# Altium integrated library Maxim Sensors.IntLib: 1172 symbols (part 12 of 61)
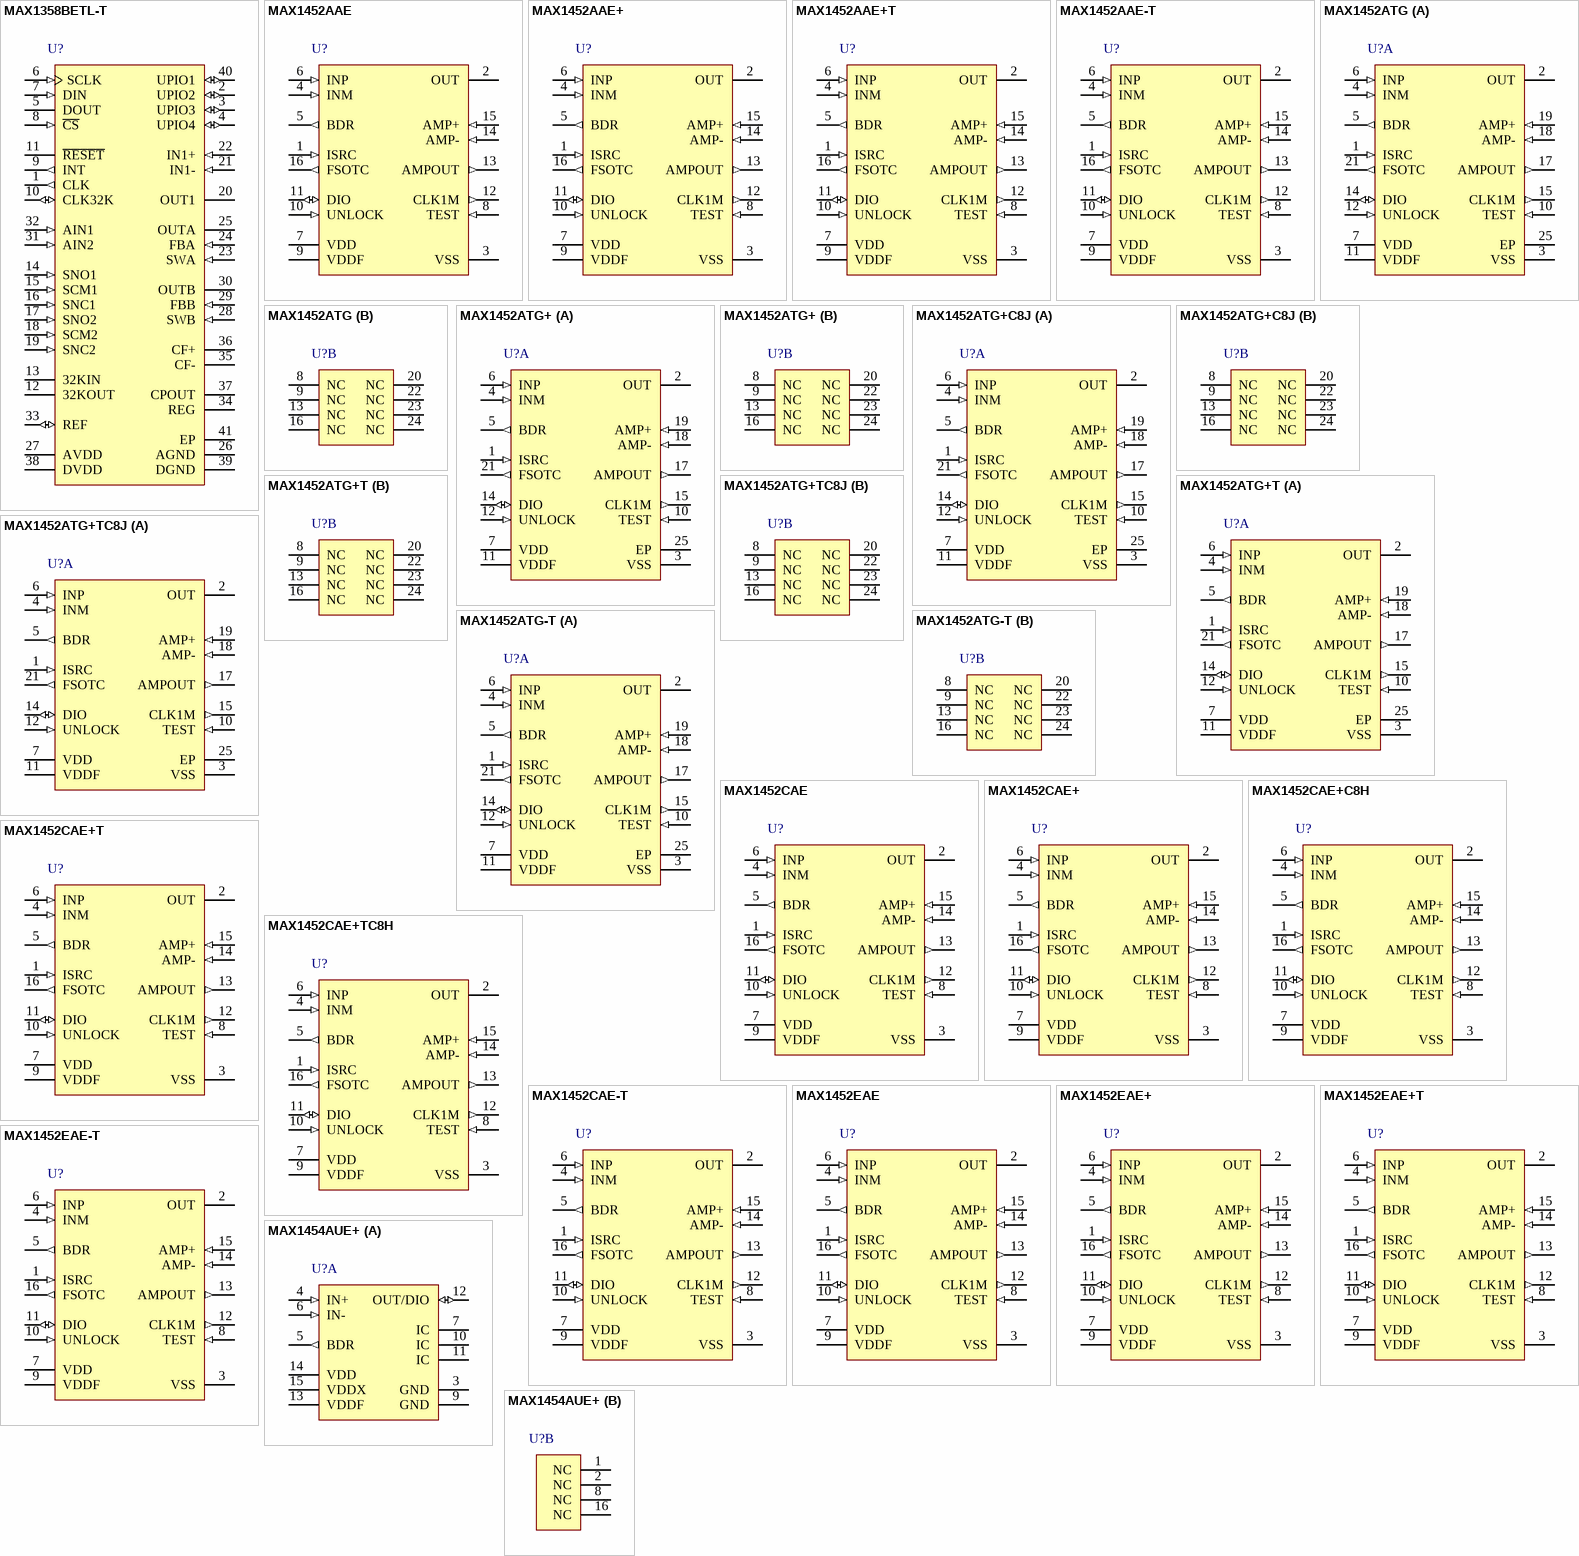
[diagram p44: symbols MAX1358BETL-T to MAX1454AUE+]

## MAX1452EAE+T
designator U?
Low Cost Precision Sensor Signal Conditioner with 16-bit DAC, -40 to 85 degC, 16-Pin SOP (A16+2), Pb-Free, Tape and Reel; Generic Part Number: MAX1452; PartNumber: MAX1452EAE+T; Calibration Method: Internal DACs updated from internal EEPROM; Industry Qualified: Automotive - AECQ100, Automotive - General; Output Type: Analog; DatasheetVersion: Rev. 2; PackageVersion: Rev. C, 02/2010; PackageReference: A16+2; PackageDescription: 16-Pin Shrink Small-Outline Package, Body 5.29 x 6.2 mm, Pitch 0.65 mm; Supplier 1: Digi-Key; Supplier Part Number 1: MAX1452EAE+T-ND; Supplier 2: Mouser; Supplier Part Number 2: 700-MAX1452EAET; DACs/ADCs: 16-bit DAC; Features: Aux. Op Amp, No External Trim Req'd ,Temp. Sensor; Packing: Tape and Reel; Mounting Technology: Surface Mount; ComponentLink1Description: Manufacturer URL; ComponentLink1URL: http://www.maximintegrated.com/; ComponentLink2Description: Datasheet; ComponentLink2URL: http://datasheets.maximintegrated.com/en/ds/MAX1452.pdf; ComponentLink3Description: Package Specification; ComponentLink3URL: http://pdfserv.maximintegrated.com/package_dwgs/21-0056.PDF
footprint MAXM-A16+2_N (SOP, 16-Leads, Body 6.2x5.29mm, Pitch 0.65mm, IPC Medium Density)
footprint MAXM-A16+2_L (SOP, 16-Leads, Body 6.2x5.29mm, Pitch 0.65mm, IPC High Density)
footprint MAXM-A16+2_M (SOP, 16-Leads, Body 6.2x5.29mm, Pitch 0.65mm, IPC Low Density)
pins: 1 ISRC (in) "Bridge Drive Current Mode Setting", 2 OUT (hiz) "High ESD and Scan Path Output Signal. May need a 0.1uF capacitor, in noisy environments. OUT may be parallel connected to DIO.", 3 VSS (power) "Negative Supply Voltage", 4 INM (in) "Bridge Negative Input. Can be swapped to INP by configuration register.", 5 BDR (out) "Bridge Drive", 6 INP (in) "Bridge Positive Input. Can be swapped to INM by configuration register.", 7 VDD (power) "Positive Supply Voltage. Connect a 0.1uF capacitor from VDD to VSS.", 8 TEST (in) "Internally Connected. Connect to VSS.", 9 VDDF (power) "Positive Supply Voltage for EEPROM. Connect a 1uF capacitor from VDDF to VSS. Connect VDDF to VDD or for improved noise performance connect a 30ohm resistor to VDD.", 10 UNLOCK (in) "Secure-Lock Disable. Allows communication to the device.", 11 DIO (io) "Digital Input Output. DIO allows communication with the device.", 12 CLK1M (out) "1MHz Clock Output. The output can be controlled by a configuration bit.", 13 AMPOUT (out) "Uncommitted Amplifier Output", 14 AMP- (in) "Uncommitted Amplifier Negative Input", 15 AMP+ (in) "Uncommitted Amplifier Positive Input", 16 FSOTC (out) "Full Span TC Buffered Output"

## MAX1452EAE-T
designator U?
Low Cost Precision Sensor Signal Conditioner with 16-bit DAC, -40 to 85 degC, 16-Pin SOP (A16-2), Tape and Reel; Generic Part Number: MAX1452; PartNumber: MAX1452EAE-T; Calibration Method: Internal DACs updated from internal EEPROM; Industry Qualified: Automotive - AECQ100, Automotive - General; Output Type: Analog; DatasheetVersion: Rev. 2; PackageVersion: Rev. C, 02/2010; PackageReference: A16-2; PackageDescription: 16-Pin Shrink Small-Outline Package, Body 5.29 x 6.2 mm, Pitch 0.65 mm; Supplier 1: Mouser; Supplier Part Number 1: N/A; DACs/ADCs: 16-bit DAC; Features: Aux. Op Amp, No External Trim Req'd ,Temp. Sensor; Packing: Tape and Reel; Mounting Technology: Surface Mount; ComponentLink1Description: Manufacturer URL; ComponentLink1URL: http://www.maximintegrated.com/; ComponentLink2Description: Datasheet; ComponentLink2URL: http://datasheets.maximintegrated.com/en/ds/MAX1452.pdf; ComponentLink3Description: Package Specification; ComponentLink3URL: http://pdfserv.maximintegrated.com/package_dwgs/21-0056.PDF
footprint MAXM-A16-2_N (SOP, 16-Leads, Body 6.2x5.29mm, Pitch 0.65mm, IPC Medium Density)
footprint MAXM-A16-2_L (SOP, 16-Leads, Body 6.2x5.29mm, Pitch 0.65mm, IPC High Density)
footprint MAXM-A16-2_M (SOP, 16-Leads, Body 6.2x5.29mm, Pitch 0.65mm, IPC Low Density)
pins: 1 ISRC (in) "Bridge Drive Current Mode Setting", 2 OUT (hiz) "High ESD and Scan Path Output Signal. May need a 0.1uF capacitor, in noisy environments. OUT may be parallel connected to DIO.", 3 VSS (power) "Negative Supply Voltage", 4 INM (in) "Bridge Negative Input. Can be swapped to INP by configuration register.", 5 BDR (out) "Bridge Drive", 6 INP (in) "Bridge Positive Input. Can be swapped to INM by configuration register.", 7 VDD (power) "Positive Supply Voltage. Connect a 0.1uF capacitor from VDD to VSS.", 8 TEST (in) "Internally Connected. Connect to VSS.", 9 VDDF (power) "Positive Supply Voltage for EEPROM. Connect a 1uF capacitor from VDDF to VSS. Connect VDDF to VDD or for improved noise performance connect a 30ohm resistor to VDD.", 10 UNLOCK (in) "Secure-Lock Disable. Allows communication to the device.", 11 DIO (io) "Digital Input Output. DIO allows communication with the device.", 12 CLK1M (out) "1MHz Clock Output. The output can be controlled by a configuration bit.", 13 AMPOUT (out) "Uncommitted Amplifier Output", 14 AMP- (in) "Uncommitted Amplifier Negative Input", 15 AMP+ (in) "Uncommitted Amplifier Positive Input", 16 FSOTC (out) "Full Span TC Buffered Output"

## MAX1454AUE+
designator U?
Precision Sensor Signal Conditioner with Overvoltage Protection with 16-bit ADC, -40 to 125 degC, 16-Pin SOP (U16M+1), Pb-Free; Generic Part Number: MAX1454; PartNumber: MAX1454AUE+; Calibration Method: Internal DACs updated from internal EEPROM; Industry Qualified: Automotive - General; Output Type: Analog; DatasheetVersion: Rev. 0; PackageVersion: Rev. L, 07/2010; PackageReference: U16M+1; PackageDescription: 16-Pin Thin Shrink Small-Outline Package, Body 4.4 x 5 mm, Pitch 0.65 mm; Supplier 1: Digi-Key; Supplier Part Number 1: MAX1454AUE+-ND; Supplier 2: Mouser; Supplier Part Number 2: 700-MAX1454AUE+; DACs/ADCs: 16-bit ADC; Features: No External Trim Req'd, Protected to &plusmn;45V ,Temp. Sensor; Mounting Technology: Surface Mount; Code_JEDEC: MO-153; ComponentLink1Description: Manufacturer URL; ComponentLink1URL: http://www.maximintegrated.com/; ComponentLink2Description: Datasheet; ComponentLink2URL: http://datasheets.maximintegrated.com/en/ds/MAX1454.pdf; ComponentLink3Description: Package Specification; ComponentLink3URL: http://pdfserv.maximintegrated.com/package_dwgs/21-0066.PDF
footprint MAXM-U16M+1_N (SOP, 16-Leads, Body 5x4.4mm, Pitch 0.65mm, IPC Medium Density)
footprint MAXM-U16M+1_L (SOP, 16-Leads, Body 5x4.4mm, Pitch 0.65mm, IPC High Density)
footprint MAXM-U16M+1_M (SOP, 16-Leads, Body 5x4.4mm, Pitch 0.65mm, IPC Low Density)
part A pins: 3 GND (power) "Ground", 4 IN+ (in) "Positive Bridge Input. IN+ can be swapped to IN- by Configuration Register 1.", 5 BDR (out) "Bridge Drive", 6 IN- (in) "Negative Bridge Input. IN- can be swapped to IN+ by Configuration Register 1.", 7 IC (power) "Internally Connected. Connect IC to GND.", 9 GND (power) "Ground", 10 IC (power) "Internally Connected. Connect IC to GND.", 11 IC (power) "Internally Connected. Connect IC to GND.", 12 OUT/DIO (io) "Analog Output and Digital I/O (Multiplexed)", 13 VDDF (power) "Flash Memory Supply Voltage. Connect VDDF to VDD.", 14 VDD (power) "Regulated Supply Voltage. Requires a 0.1uF capacitor from VDD to GND.", 15 VDDX (power) "External Supply Voltage. Bypass to GND with a 0.1uF capacitor."
part B pins: 1 NC "No Connection. Not internally connected.", 2 NC "No Connection. Not internally connected.", 8 NC "No Connection. Not internally connected.", 16 NC "No Connection. Not internally connected."

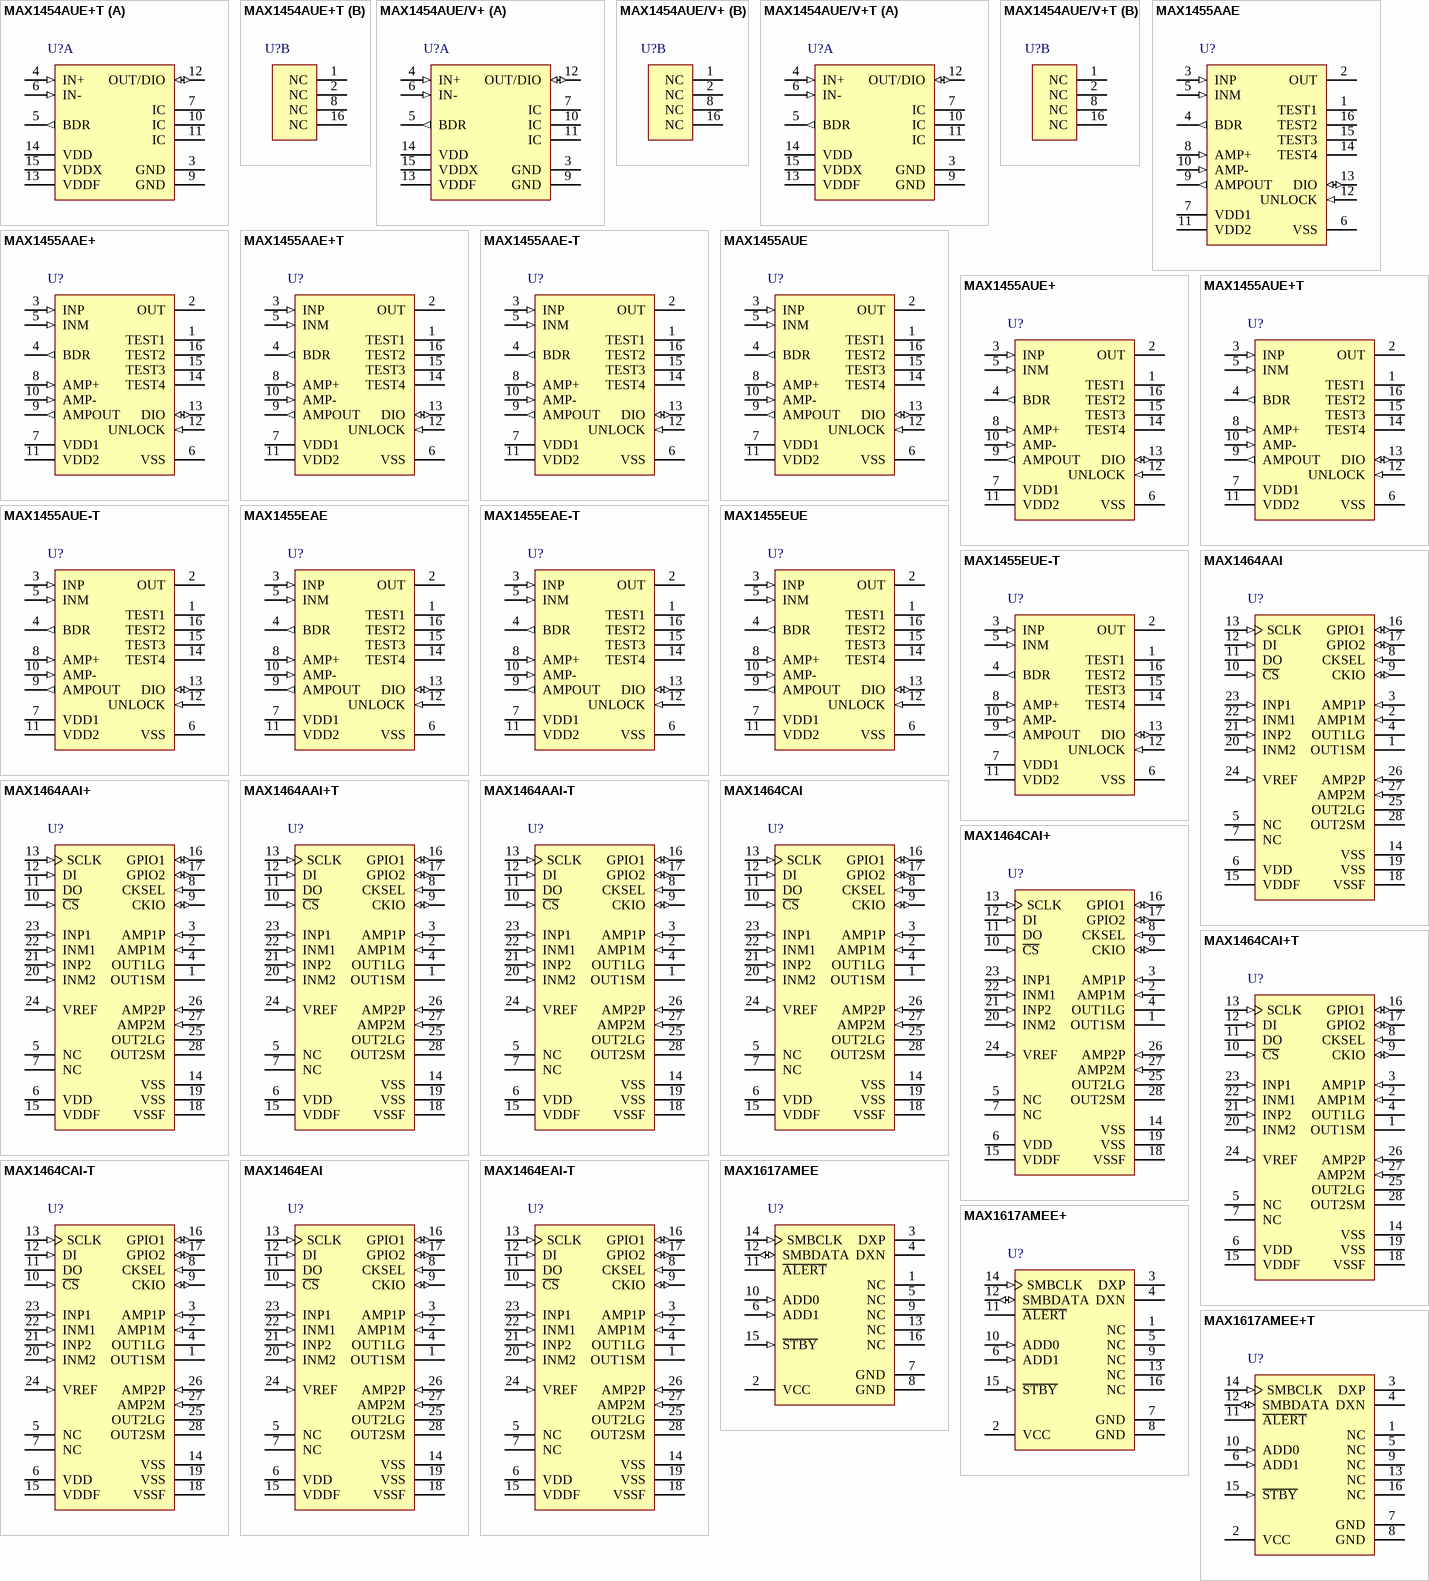
[diagram p7: symbols MAX1454AUE+T to MAX1617AMEE+T]

## MAX1454AUE+T
designator U?
Precision Sensor Signal Conditioner with Overvoltage Protection with 16-bit ADC, -40 to 125 degC, 16-Pin SOP (U16M+1), Pb-Free, Tape and Reel; Generic Part Number: MAX1454; PartNumber: MAX1454AUE+T; Calibration Method: Internal DACs updated from internal EEPROM; Industry Qualified: Automotive - General; Output Type: Analog; DatasheetVersion: Rev. 0; PackageVersion: Rev. L, 07/2010; PackageReference: U16M+1; PackageDescription: 16-Pin Thin Shrink Small-Outline Package, Body 4.4 x 5 mm, Pitch 0.65 mm; Supplier 1: Digi-Key; Supplier Part Number 1: MAX1454AUE+T-ND; Supplier 2: Mouser; Supplier Part Number 2: 700-MAX1454AUE+T; DACs/ADCs: 16-bit ADC; Features: No External Trim Req'd, Protected to &plusmn; 45V, Temp. Sensor; Packing: Tape and Reel; Mounting Technology: Surface Mount; Code_JEDEC: MO-153; ComponentLink1Description: Manufacturer URL; ComponentLink1URL: http://www.maximintegrated.com/; ComponentLink2Description: Datasheet; ComponentLink2URL: http://datasheets.maximintegrated.com/en/ds/MAX1454.pdf; ComponentLink3Description: Package Specification; ComponentLink3URL: http://pdfserv.maximintegrated.com/package_dwgs/21-0066.PDF
footprint MAXM-U16M+1_N (SOP, 16-Leads, Body 5x4.4mm, Pitch 0.65mm, IPC Medium Density)
footprint MAXM-U16M+1_L (SOP, 16-Leads, Body 5x4.4mm, Pitch 0.65mm, IPC High Density)
footprint MAXM-U16M+1_M (SOP, 16-Leads, Body 5x4.4mm, Pitch 0.65mm, IPC Low Density)
part A pins: 3 GND (power) "Ground", 4 IN+ (in) "Positive Bridge Input. IN+ can be swapped to IN- by Configuration Register 1.", 5 BDR (out) "Bridge Drive", 6 IN- (in) "Negative Bridge Input. IN- can be swapped to IN+ by Configuration Register 1.", 7 IC (power) "Internally Connected. Connect IC to GND.", 9 GND (power) "Ground", 10 IC (power) "Internally Connected. Connect IC to GND.", 11 IC (power) "Internally Connected. Connect IC to GND.", 12 OUT/DIO (io) "Analog Output and Digital I/O (Multiplexed)", 13 VDDF (power) "Flash Memory Supply Voltage. Connect VDDF to VDD.", 14 VDD (power) "Regulated Supply Voltage. Requires a 0.1uF capacitor from VDD to GND.", 15 VDDX (power) "External Supply Voltage. Bypass to GND with a 0.1uF capacitor."
part B pins: 1 NC "No Connection. Not internally connected.", 2 NC "No Connection. Not internally connected.", 8 NC "No Connection. Not internally connected.", 16 NC "No Connection. Not internally connected."

## MAX1454AUE/V+
designator U?
Precision Sensor Signal Conditioner with Overvoltage Protection with 16-bit ADC, -40 to 125 degC, 16-Pin SOP (U16M+1), Pb-Free; Generic Part Number: MAX1454; PartNumber: MAX1454AUE/V+; Calibration Method: Internal DACs updated from internal EEPROM; Industry Qualified: Automotive - General; Output Type: Analog; DatasheetVersion: Rev. 0; PackageVersion: Rev. L, 07/2010; PackageReference: U16M+1; PackageDescription: 16-Pin Thin Shrink Small-Outline Package, Body 4.4 x 5 mm, Pitch 0.65 mm; Supplier 1: Digi-Key; Supplier Part Number 1: MAX1454AUE/V+-ND; Supplier 2: Mouser; Supplier Part Number 2: 700-MAX1454AUE/V+; DACs/ADCs: 16-bit ADC; Features: No External Trim Req'd, Protected to &plusmn;45V ,Temp. Sensor; Mounting Technology: Surface Mount; Code_JEDEC: MO-153; ComponentLink1Description: Manufacturer URL; ComponentLink1URL: http://www.maximintegrated.com/; ComponentLink2Description: Datasheet; ComponentLink2URL: http://datasheets.maximintegrated.com/en/ds/MAX1454.pdf; ComponentLink3Description: Package Specification; ComponentLink3URL: http://pdfserv.maximintegrated.com/package_dwgs/21-0066.PDF
footprint MAXM-U16M+1_N (SOP, 16-Leads, Body 5x4.4mm, Pitch 0.65mm, IPC Medium Density)
footprint MAXM-U16M+1_L (SOP, 16-Leads, Body 5x4.4mm, Pitch 0.65mm, IPC High Density)
footprint MAXM-U16M+1_M (SOP, 16-Leads, Body 5x4.4mm, Pitch 0.65mm, IPC Low Density)
part A pins: 3 GND (power) "Ground", 4 IN+ (in) "Positive Bridge Input. IN+ can be swapped to IN- by Configuration Register 1.", 5 BDR (out) "Bridge Drive", 6 IN- (in) "Negative Bridge Input. IN- can be swapped to IN+ by Configuration Register 1.", 7 IC (power) "Internally Connected. Connect IC to GND.", 9 GND (power) "Ground", 10 IC (power) "Internally Connected. Connect IC to GND.", 11 IC (power) "Internally Connected. Connect IC to GND.", 12 OUT/DIO (io) "Analog Output and Digital I/O (Multiplexed)", 13 VDDF (power) "Flash Memory Supply Voltage. Connect VDDF to VDD.", 14 VDD (power) "Regulated Supply Voltage. Requires a 0.1uF capacitor from VDD to GND.", 15 VDDX (power) "External Supply Voltage. Bypass to GND with a 0.1uF capacitor."
part B pins: 1 NC "No Connection. Not internally connected.", 2 NC "No Connection. Not internally connected.", 8 NC "No Connection. Not internally connected.", 16 NC "No Connection. Not internally connected."

## MAX1454AUE/V+T
designator U?
Precision Sensor Signal Conditioner with Overvoltage Protection with 16-bit ADC, -40 to 125 degC, 16-Pin SOP (U16M+1), Pb-Free, Tape and Reel; Generic Part Number: MAX1454; PartNumber: MAX1454AUE/V+T; Calibration Method: Internal DACs updated from internal EEPROM; Industry Qualified: Automotive - General; Output Type: Analog; DatasheetVersion: Rev. 0; PackageVersion: Rev. L, 07/2010; PackageReference: U16M+1; PackageDescription: 16-Pin Thin Shrink Small-Outline Package, Body 4.4 x 5 mm, Pitch 0.65 mm; Supplier 1: Digi-Key; Supplier Part Number 1: MAX1454AUE/V+T-ND; Supplier 2: Mouser; Supplier Part Number 2: 700-MAX1454AUE/V+T; DACs/ADCs: 16-bit ADC; Features: No External Trim Req'd, Protected to &plusmn;45V ,Temp. Sensor; Packing: Tape and Reel; Mounting Technology: Surface Mount; Code_JEDEC: MO-153; ComponentLink1Description: Manufacturer URL; ComponentLink1URL: http://www.maximintegrated.com/; ComponentLink2Description: Datasheet; ComponentLink2URL: http://datasheets.maximintegrated.com/en/ds/MAX1454.pdf; ComponentLink3Description: Package Specification; ComponentLink3URL: http://pdfserv.maximintegrated.com/package_dwgs/21-0066.PDF
footprint MAXM-U16M+1_N (SOP, 16-Leads, Body 5x4.4mm, Pitch 0.65mm, IPC Medium Density)
footprint MAXM-U16M+1_L (SOP, 16-Leads, Body 5x4.4mm, Pitch 0.65mm, IPC High Density)
footprint MAXM-U16M+1_M (SOP, 16-Leads, Body 5x4.4mm, Pitch 0.65mm, IPC Low Density)
part A pins: 3 GND (power) "Ground", 4 IN+ (in) "Positive Bridge Input. IN+ can be swapped to IN- by Configuration Register 1.", 5 BDR (out) "Bridge Drive", 6 IN- (in) "Negative Bridge Input. IN- can be swapped to IN+ by Configuration Register 1.", 7 IC (power) "Internally Connected. Connect IC to GND.", 9 GND (power) "Ground", 10 IC (power) "Internally Connected. Connect IC to GND.", 11 IC (power) "Internally Connected. Connect IC to GND.", 12 OUT/DIO (io) "Analog Output and Digital I/O (Multiplexed)", 13 VDDF (power) "Flash Memory Supply Voltage. Connect VDDF to VDD.", 14 VDD (power) "Regulated Supply Voltage. Requires a 0.1uF capacitor from VDD to GND.", 15 VDDX (power) "External Supply Voltage. Bypass to GND with a 0.1uF capacitor."
part B pins: 1 NC "No Connection. Not internally connected.", 2 NC "No Connection. Not internally connected.", 8 NC "No Connection. Not internally connected.", 16 NC "No Connection. Not internally connected."

## MAX1455AAE
designator U?
Low Cost Automotive Sensor Signal Conditioner with 16-bit DAC, -40 to 125 degC, 16-Pin SOP (A16-2); Generic Part Number: MAX1455; PartNumber: MAX1455AAE; Calibration Method: Internal DACs updated from internal EEPROM; Industry Qualified: Automotive - AECQ100, Automotive - General; Output Type: Analog; DatasheetVersion: Rev. 1; PackageVersion: Rev. C, 02/2010; PackageReference: A16-2; PackageDescription: 16-Pin Shrink Small-Outline Package, Body 5.29 x 6.2 mm, Pitch 0.65 mm; Supplier 1: Digi-Key; Supplier Part Number 1: MAX1455AAE-ND; Supplier 2: Mouser; Supplier Part Number 2: 700-MAX1455AAE-; DACs/ADCs: 16-bit DAC; Features: Aux. Op Amp, No External Trim Req'd ,Temp. Sensor; Mounting Technology: Surface Mount; ComponentLink1Description: Manufacturer URL; ComponentLink1URL: http://www.maximintegrated.com/; ComponentLink2Description: Datasheet; ComponentLink2URL: http://datasheets.maximintegrated.com/en/ds/MAX1455.pdf; ComponentLink3Description: Package Specification; ComponentLink3URL: http://pdfserv.maximintegrated.com/package_dwgs/21-0056.PDF
footprint MAXM-A16-2_N (SOP, 16-Leads, Body 6.2x5.29mm, Pitch 0.65mm, IPC Medium Density)
footprint MAXM-A16-2_L (SOP, 16-Leads, Body 6.2x5.29mm, Pitch 0.65mm, IPC High Density)
footprint MAXM-A16-2_M (SOP, 16-Leads, Body 6.2x5.29mm, Pitch 0.65mm, IPC Low Density)
pins: 1 TEST1 "Test Pin. Connect to VSS or leave unconnected.", 2 OUT (hiz) "Analog Output. Internal voltage nodes can be accessed in digital mode. OUT can be parallel connected to DIO. Bypass OUT to ground with a 0.1uF capacitor to reduce output noise.", 3 INP (in) "Positive Input. Can be swapped to INM by the Configuration register.", 4 BDR (out) "Bridge Drive Output", 5 INM (in) "Negative Input. Can be swapped to INP by the Configuration register.", 6 VSS (power) "Negative Supply Voltage", 7 VDD1 (power) "Positive Supply Voltage 1. Connect a 0.1uF capacitor from VDD to VSS.", 8 AMP+ (in) "Auxiliary Op Amp Positive Input", 9 AMPOUT (out) "Auxiliary Op Amp Output", 10 AMP- (in) "Auxiliary Op Amp Negative Input", 11 VDD2 (power) "Positive Supply Voltage 2. Connect a 0.47uF capacitor from VDD2 to VSS. Connect VDD2 to VDD1 or for improved noise performance, connect a 1k ohm resistor to VDD1.", 12 UNLOCK (in) "Secure-Lock Disable. There is a 150uA pulldown to VSS. Connect to VDD to disable Secure-Lock and enable serial communication.", 13 DIO (io) "Digital Input Output. Single-pin serial communication port. There are no internal pullups on DIO. Connect pullup resistor from DIO to VDD when in digital mode.", 14 TEST4 "Test Pin. Do not connect.", 15 TEST3 "Test Pin. Connect to VSS or leave unconnected.", 16 TEST2 "Test Pin. Connect to VSS or leave unconnected."

## MAX1455AAE+
designator U?
Low Cost Automotive Sensor Signal Conditioner with 16-bit DAC, -40 to 125 degC, 16-Pin SOP (A16+2), Pb-Free; Generic Part Number: MAX1455; PartNumber: MAX1455AAE+; Calibration Method: Internal DACs updated from internal EEPROM; Industry Qualified: Automotive - AECQ100, Automotive - General; Output Type: Analog; DatasheetVersion: Rev. 1; PackageVersion: Rev. C, 02/2010; PackageReference: A16+2; PackageDescription: 16-Pin Shrink Small-Outline Package, Body 5.29 x 6.2 mm, Pitch 0.65 mm; Supplier 1: Digi-Key; Supplier Part Number 1: MAX1455AAE+-ND; Supplier 2: Mouser; Supplier Part Number 2: 700-MAX1455AAE+; DACs/ADCs: 16-bit DAC; Features: Aux. Op Amp, No External Trim Req'd ,Temp. Sensor; Mounting Technology: Surface Mount; ComponentLink1Description: Manufacturer URL; ComponentLink1URL: http://www.maximintegrated.com/; ComponentLink2Description: Datasheet; ComponentLink2URL: http://datasheets.maximintegrated.com/en/ds/MAX1455.pdf; ComponentLink3Description: Package Specification; ComponentLink3URL: http://pdfserv.maximintegrated.com/package_dwgs/21-0056.PDF
footprint MAXM-A16+2_N (SOP, 16-Leads, Body 6.2x5.29mm, Pitch 0.65mm, IPC Medium Density)
footprint MAXM-A16+2_L (SOP, 16-Leads, Body 6.2x5.29mm, Pitch 0.65mm, IPC High Density)
footprint MAXM-A16+2_M (SOP, 16-Leads, Body 6.2x5.29mm, Pitch 0.65mm, IPC Low Density)
pins: 1 TEST1 "Test Pin. Connect to VSS or leave unconnected.", 2 OUT (hiz) "Analog Output. Internal voltage nodes can be accessed in digital mode. OUT can be parallel connected to DIO. Bypass OUT to ground with a 0.1uF capacitor to reduce output noise.", 3 INP (in) "Positive Input. Can be swapped to INM by the Configuration register.", 4 BDR (out) "Bridge Drive Output", 5 INM (in) "Negative Input. Can be swapped to INP by the Configuration register.", 6 VSS (power) "Negative Supply Voltage", 7 VDD1 (power) "Positive Supply Voltage 1. Connect a 0.1uF capacitor from VDD to VSS.", 8 AMP+ (in) "Auxiliary Op Amp Positive Input", 9 AMPOUT (out) "Auxiliary Op Amp Output", 10 AMP- (in) "Auxiliary Op Amp Negative Input", 11 VDD2 (power) "Positive Supply Voltage 2. Connect a 0.47uF capacitor from VDD2 to VSS. Connect VDD2 to VDD1 or for improved noise performance, connect a 1k ohm resistor to VDD1.", 12 UNLOCK (in) "Secure-Lock Disable. There is a 150uA pulldown to VSS. Connect to VDD to disable Secure-Lock and enable serial communication.", 13 DIO (io) "Digital Input Output. Single-pin serial communication port. There are no internal pullups on DIO. Connect pullup resistor from DIO to VDD when in digital mode.", 14 TEST4 "Test Pin. Do not connect.", 15 TEST3 "Test Pin. Connect to VSS or leave unconnected.", 16 TEST2 "Test Pin. Connect to VSS or leave unconnected."

## MAX1455AAE+T
designator U?
Low Cost Automotive Sensor Signal Conditioner with 16-bit DAC, -40 to 125 degC, 16-Pin SOP (A16+2), Pb-Free, Tape and Reel; Generic Part Number: MAX1455; PartNumber: MAX1455AAE+T; Calibration Method: Internal DACs updated from internal EEPROM; Industry Qualified: Automotive - AECQ100, Automotive - General; Output Type: Analog; DatasheetVersion: Rev. 1; PackageVersion: Rev. C, 02/2010; PackageReference: A16+2; PackageDescription: 16-Pin Shrink Small-Outline Package, Body 5.29 x 6.2 mm, Pitch 0.65 mm; Supplier 1: Digi-Key; Supplier Part Number 1: MAX1455AAE+T-ND; Supplier 2: Mouser; Supplier Part Number 2: 700-MAX1455AAE+T; DACs/ADCs: 16-bit DAC; Features: Aux. Op Amp, No External Trim Req'd ,Temp. Sensor; Packing: Tape and Reel; Mounting Technology: Surface Mount; ComponentLink1Description: Manufacturer URL; ComponentLink1URL: http://www.maximintegrated.com/; ComponentLink2Description: Datasheet; ComponentLink2URL: http://datasheets.maximintegrated.com/en/ds/MAX1455.pdf; ComponentLink3Description: Package Specification; ComponentLink3URL: http://pdfserv.maximintegrated.com/package_dwgs/21-0056.PDF
footprint MAXM-A16+2_N (SOP, 16-Leads, Body 6.2x5.29mm, Pitch 0.65mm, IPC Medium Density)
footprint MAXM-A16+2_L (SOP, 16-Leads, Body 6.2x5.29mm, Pitch 0.65mm, IPC High Density)
footprint MAXM-A16+2_M (SOP, 16-Leads, Body 6.2x5.29mm, Pitch 0.65mm, IPC Low Density)
pins: 1 TEST1 "Test Pin. Connect to VSS or leave unconnected.", 2 OUT (hiz) "Analog Output. Internal voltage nodes can be accessed in digital mode. OUT can be parallel connected to DIO. Bypass OUT to ground with a 0.1uF capacitor to reduce output noise.", 3 INP (in) "Positive Input. Can be swapped to INM by the Configuration register.", 4 BDR (out) "Bridge Drive Output", 5 INM (in) "Negative Input. Can be swapped to INP by the Configuration register.", 6 VSS (power) "Negative Supply Voltage", 7 VDD1 (power) "Positive Supply Voltage 1. Connect a 0.1uF capacitor from VDD to VSS.", 8 AMP+ (in) "Auxiliary Op Amp Positive Input", 9 AMPOUT (out) "Auxiliary Op Amp Output", 10 AMP- (in) "Auxiliary Op Amp Negative Input", 11 VDD2 (power) "Positive Supply Voltage 2. Connect a 0.47uF capacitor from VDD2 to VSS. Connect VDD2 to VDD1 or for improved noise performance, connect a 1k ohm resistor to VDD1.", 12 UNLOCK (in) "Secure-Lock Disable. There is a 150uA pulldown to VSS. Connect to VDD to disable Secure-Lock and enable serial communication.", 13 DIO (io) "Digital Input Output. Single-pin serial communication port. There are no internal pullups on DIO. Connect pullup resistor from DIO to VDD when in digital mode.", 14 TEST4 "Test Pin. Do not connect.", 15 TEST3 "Test Pin. Connect to VSS or leave unconnected.", 16 TEST2 "Test Pin. Connect to VSS or leave unconnected."

## MAX1455AAE-T
designator U?
Low Cost Automotive Sensor Signal Conditioner with 16-bit DAC, -40 to 125 degC, 16-Pin SOP (A16-2), Tape and Reel; Generic Part Number: MAX1455; PartNumber: MAX1455AAE-T; Calibration Method: Internal DACs updated from internal EEPROM; Industry Qualified: Automotive - AECQ100, Automotive - General; Output Type: Analog; DatasheetVersion: Rev. 1; PackageVersion: Rev. C, 02/2010; PackageReference: A16-2; PackageDescription: 16-Pin Shrink Small-Outline Package, Body 5.29 x 6.2 mm, Pitch 0.65 mm; Supplier 1: Digi-Key; Supplier Part Number 1: MAX1455AAE-T-ND; Supplier 2: Mouser; Supplier Part Number 2: 700-MAX1455AAE-T-; DACs/ADCs: 16-bit DAC; Features: Aux. Op Amp, No External Trim Req'd ,Temp. Sensor; Packing: Tape and Reel; Mounting Technology: Surface Mount; ComponentLink1Description: Manufacturer URL; ComponentLink1URL: http://www.maximintegrated.com/; ComponentLink2Description: Datasheet; ComponentLink2URL: http://datasheets.maximintegrated.com/en/ds/MAX1455.pdf; ComponentLink3Description: Package Specification; ComponentLink3URL: http://pdfserv.maximintegrated.com/package_dwgs/21-0056.PDF
footprint MAXM-A16-2_N (SOP, 16-Leads, Body 6.2x5.29mm, Pitch 0.65mm, IPC Medium Density)
footprint MAXM-A16-2_L (SOP, 16-Leads, Body 6.2x5.29mm, Pitch 0.65mm, IPC High Density)
footprint MAXM-A16-2_M (SOP, 16-Leads, Body 6.2x5.29mm, Pitch 0.65mm, IPC Low Density)
pins: 1 TEST1 "Test Pin. Connect to VSS or leave unconnected.", 2 OUT (hiz) "Analog Output. Internal voltage nodes can be accessed in digital mode. OUT can be parallel connected to DIO. Bypass OUT to ground with a 0.1uF capacitor to reduce output noise.", 3 INP (in) "Positive Input. Can be swapped to INM by the Configuration register.", 4 BDR (out) "Bridge Drive Output", 5 INM (in) "Negative Input. Can be swapped to INP by the Configuration register.", 6 VSS (power) "Negative Supply Voltage", 7 VDD1 (power) "Positive Supply Voltage 1. Connect a 0.1uF capacitor from VDD to VSS.", 8 AMP+ (in) "Auxiliary Op Amp Positive Input", 9 AMPOUT (out) "Auxiliary Op Amp Output", 10 AMP- (in) "Auxiliary Op Amp Negative Input", 11 VDD2 (power) "Positive Supply Voltage 2. Connect a 0.47uF capacitor from VDD2 to VSS. Connect VDD2 to VDD1 or for improved noise performance, connect a 1k ohm resistor to VDD1.", 12 UNLOCK (in) "Secure-Lock Disable. There is a 150uA pulldown to VSS. Connect to VDD to disable Secure-Lock and enable serial communication.", 13 DIO (io) "Digital Input Output. Single-pin serial communication port. There are no internal pullups on DIO. Connect pullup resistor from DIO to VDD when in digital mode.", 14 TEST4 "Test Pin. Do not connect.", 15 TEST3 "Test Pin. Connect to VSS or leave unconnected.", 16 TEST2 "Test Pin. Connect to VSS or leave unconnected."

## MAX1455AUE
designator U?
Low Cost Automotive Sensor Signal Conditioner with 16-bit DAC, -40 to 125 degC, 16-Pin SOP (U16-2); Generic Part Number: MAX1455; PartNumber: MAX1455AUE; Calibration Method: Internal DACs updated from internal EEPROM; Industry Qualified: Automotive - AECQ100, Automotive - General; Output Type: Analog; DatasheetVersion: Rev. 1; PackageVersion: Rev. L, 07/2010; PackageReference: U16-2; PackageDescription: 16-Pin Thin Shrink Small-Outline Package, Body 4.4 x 5 mm, Pitch 0.65 mm; Supplier 1: Mouser; Supplier Part Number 1: N/A; DACs/ADCs: 16-bit DAC; Features: Aux. Op Amp, No External Trim Req'd ,Temp. Sensor; Mounting Technology: Surface Mount; Code_JEDEC: MO-153; ComponentLink1Description: Manufacturer URL; ComponentLink1URL: http://www.maximintegrated.com/; ComponentLink2Description: Datasheet; ComponentLink2URL: http://datasheets.maximintegrated.com/en/ds/MAX1455.pdf; ComponentLink3Description: Package Specification; ComponentLink3URL: http://pdfserv.maximintegrated.com/package_dwgs/21-0066.PDF
footprint MAXM-U16-2_N (SOP, 16-Leads, Body 5x4.4mm, Pitch 0.65mm, IPC Medium Density)
footprint MAXM-U16-2_L (SOP, 16-Leads, Body 5x4.4mm, Pitch 0.65mm, IPC High Density)
footprint MAXM-U16-2_M (SOP, 16-Leads, Body 5x4.4mm, Pitch 0.65mm, IPC Low Density)
pins: 1 TEST1 "Test Pin. Connect to VSS or leave unconnected.", 2 OUT (hiz) "Analog Output. Internal voltage nodes can be accessed in digital mode. OUT can be parallel connected to DIO. Bypass OUT to ground with a 0.1uF capacitor to reduce output noise.", 3 INP (in) "Positive Input. Can be swapped to INM by the Configuration register.", 4 BDR (out) "Bridge Drive Output", 5 INM (in) "Negative Input. Can be swapped to INP by the Configuration register.", 6 VSS (power) "Negative Supply Voltage", 7 VDD1 (power) "Positive Supply Voltage 1. Connect a 0.1uF capacitor from VDD to VSS.", 8 AMP+ (in) "Auxiliary Op Amp Positive Input", 9 AMPOUT (out) "Auxiliary Op Amp Output", 10 AMP- (in) "Auxiliary Op Amp Negative Input", 11 VDD2 (power) "Positive Supply Voltage 2. Connect a 0.47uF capacitor from VDD2 to VSS. Connect VDD2 to VDD1 or for improved noise performance, connect a 1k ohm resistor to VDD1.", 12 UNLOCK (in) "Secure-Lock Disable. There is a 150uA pulldown to VSS. Connect to VDD to disable Secure-Lock and enable serial communication.", 13 DIO (io) "Digital Input Output. Single-pin serial communication port. There are no internal pullups on DIO. Connect pullup resistor from DIO to VDD when in digital mode.", 14 TEST4 "Test Pin. Do not connect.", 15 TEST3 "Test Pin. Connect to VSS or leave unconnected.", 16 TEST2 "Test Pin. Connect to VSS or leave unconnected."

## MAX1455AUE+
designator U?
Low Cost Automotive Sensor Signal Conditioner with 16-bit DAC, -40 to 125 degC, 16-Pin SOP (U16+2), Pb-Free; Generic Part Number: MAX1455; PartNumber: MAX1455AUE+; Calibration Method: Internal DACs updated from internal EEPROM; Industry Qualified: Automotive - AECQ100, Automotive - General; Output Type: Analog; DatasheetVersion: Rev. 1; PackageVersion: Rev. L, 07/2010; PackageReference: U16+2; PackageDescription: 16-Pin Thin Shrink Small-Outline Package (U16+2), Body 5 x 4.4 mm, Pitch 0.65 mm; Supplier 1: Digi-Key; Supplier Part Number 1: MAX1455AUE+-ND; Supplier 2: Mouser; Supplier Part Number 2: 700-MAX1455AUE; DACs/ADCs: 16-bit DAC; Features: Aux. Op Amp, No External Trim Req'd ,Temp. Sensor; Mounting Technology: Surface Mount; Code_JEDEC: MO-153; ComponentLink1Description: Manufacturer URL; ComponentLink1URL: http://www.maximintegrated.com/; ComponentLink2Description: Datasheet; ComponentLink2URL: http://datasheets.maximintegrated.com/en/ds/MAX1455.pdf; ComponentLink3Description: Package Specification; ComponentLink3URL: http://pdfserv.maximintegrated.com/package_dwgs/21-0066.PDF
footprint MAXM-U16+2_N (SOP, 16-Leads, Body 5x4.4mm, Pitch 0.65mm, IPC Medium Density)
footprint MAXM-U16+2_L (SOP, 16-Leads, Body 5x4.4mm, Pitch 0.65mm, IPC High Density)
footprint MAXM-U16+2_M (SOP, 16-Leads, Body 5x4.4mm, Pitch 0.65mm, IPC Low Density)
pins: 1 TEST1 "Test Pin. Connect to VSS or leave unconnected.", 2 OUT (hiz) "Analog Output. Internal voltage nodes can be accessed in digital mode. OUT can be parallel connected to DIO. Bypass OUT to ground with a 0.1uF capacitor to reduce output noise.", 3 INP (in) "Positive Input. Can be swapped to INM by the Configuration register.", 4 BDR (out) "Bridge Drive Output", 5 INM (in) "Negative Input. Can be swapped to INP by the Configuration register.", 6 VSS (power) "Negative Supply Voltage", 7 VDD1 (power) "Positive Supply Voltage 1. Connect a 0.1uF capacitor from VDD to VSS.", 8 AMP+ (in) "Auxiliary Op Amp Positive Input", 9 AMPOUT (out) "Auxiliary Op Amp Output", 10 AMP- (in) "Auxiliary Op Amp Negative Input", 11 VDD2 (power) "Positive Supply Voltage 2. Connect a 0.47uF capacitor from VDD2 to VSS. Connect VDD2 to VDD1 or for improved noise performance, connect a 1k ohm resistor to VDD1.", 12 UNLOCK (in) "Secure-Lock Disable. There is a 150uA pulldown to VSS. Connect to VDD to disable Secure-Lock and enable serial communication.", 13 DIO (io) "Digital Input Output. Single-pin serial communication port. There are no internal pullups on DIO. Connect pullup resistor from DIO to VDD when in digital mode.", 14 TEST4 "Test Pin. Do not connect.", 15 TEST3 "Test Pin. Connect to VSS or leave unconnected.", 16 TEST2 "Test Pin. Connect to VSS or leave unconnected."

## MAX1455AUE+T
designator U?
Low Cost Automotive Sensor Signal Conditioner with 16-bit DAC, -40 to 125 degC, 16-Pin SOP (U16+2), Pb-Free, Tape and Reel; Generic Part Number: MAX1455; PartNumber: MAX1455AUE+T; Calibration Method: Internal DACs updated from internal EEPROM; Industry Qualified: Automotive - AECQ100, Automotive - General; Output Type: Analog; DatasheetVersion: Rev. 1; PackageVersion: Rev. L, 07/2010; PackageReference: U16+2; PackageDescription: 16-Pin Thin Shrink Small-Outline Package (U16+2), Body 5 x 4.4 mm, Pitch 0.65 mm; Supplier 1: Digi-Key; Supplier Part Number 1: MAX1455AUE+T-ND; Supplier 2: Mouser; Supplier Part Number 2: 700-MAX1455AUET; DACs/ADCs: 16-bit DAC; Features: Aux. Op Amp, No External Trim Req'd ,Temp. Sensor; Packing: Tape and Reel; Mounting Technology: Surface Mount; Code_JEDEC: MO-153; ComponentLink1Description: Manufacturer URL; ComponentLink1URL: http://www.maximintegrated.com/; ComponentLink2Description: Datasheet; ComponentLink2URL: http://datasheets.maximintegrated.com/en/ds/MAX1455.pdf; ComponentLink3Description: Package Specification; ComponentLink3URL: http://pdfserv.maximintegrated.com/package_dwgs/21-0066.PDF
footprint MAXM-U16+2_N (SOP, 16-Leads, Body 5x4.4mm, Pitch 0.65mm, IPC Medium Density)
footprint MAXM-U16+2_L (SOP, 16-Leads, Body 5x4.4mm, Pitch 0.65mm, IPC High Density)
footprint MAXM-U16+2_M (SOP, 16-Leads, Body 5x4.4mm, Pitch 0.65mm, IPC Low Density)
pins: 1 TEST1 "Test Pin. Connect to VSS or leave unconnected.", 2 OUT (hiz) "Analog Output. Internal voltage nodes can be accessed in digital mode. OUT can be parallel connected to DIO. Bypass OUT to ground with a 0.1uF capacitor to reduce output noise.", 3 INP (in) "Positive Input. Can be swapped to INM by the Configuration register.", 4 BDR (out) "Bridge Drive Output", 5 INM (in) "Negative Input. Can be swapped to INP by the Configuration register.", 6 VSS (power) "Negative Supply Voltage", 7 VDD1 (power) "Positive Supply Voltage 1. Connect a 0.1uF capacitor from VDD to VSS.", 8 AMP+ (in) "Auxiliary Op Amp Positive Input", 9 AMPOUT (out) "Auxiliary Op Amp Output", 10 AMP- (in) "Auxiliary Op Amp Negative Input", 11 VDD2 (power) "Positive Supply Voltage 2. Connect a 0.47uF capacitor from VDD2 to VSS. Connect VDD2 to VDD1 or for improved noise performance, connect a 1k ohm resistor to VDD1.", 12 UNLOCK (in) "Secure-Lock Disable. There is a 150uA pulldown to VSS. Connect to VDD to disable Secure-Lock and enable serial communication.", 13 DIO (io) "Digital Input Output. Single-pin serial communication port. There are no internal pullups on DIO. Connect pullup resistor from DIO to VDD when in digital mode.", 14 TEST4 "Test Pin. Do not connect.", 15 TEST3 "Test Pin. Connect to VSS or leave unconnected.", 16 TEST2 "Test Pin. Connect to VSS or leave unconnected."

## MAX1455AUE-T
designator U?
Low Cost Automotive Sensor Signal Conditioner with 16-bit DAC, -40 to 125 degC, 16-Pin SOP (U16-2), Tape and Reel; Generic Part Number: MAX1455; PartNumber: MAX1455AUE-T; Calibration Method: Internal DACs updated from internal EEPROM; Industry Qualified: Automotive - AECQ100, Automotive - General; Output Type: Analog; DatasheetVersion: Rev. 1; PackageVersion: Rev. L, 07/2010; PackageReference: U16-2; PackageDescription: 16-Pin Thin Shrink Small-Outline Package, Body 4.4 x 5 mm, Pitch 0.65 mm; Supplier 1: Mouser; Supplier Part Number 1: N/A; DACs/ADCs: 16-bit DAC; Features: Aux. Op Amp, No External Trim Req'd ,Temp. Sensor; Packing: Tape and Reel; Mounting Technology: Surface Mount; Code_JEDEC: MO-153; ComponentLink1Description: Manufacturer URL; ComponentLink1URL: http://www.maximintegrated.com/; ComponentLink2Description: Datasheet; ComponentLink2URL: http://datasheets.maximintegrated.com/en/ds/MAX1455.pdf; ComponentLink3Description: Package Specification; ComponentLink3URL: http://pdfserv.maximintegrated.com/package_dwgs/21-0066.PDF
footprint MAXM-U16-2_N (SOP, 16-Leads, Body 5x4.4mm, Pitch 0.65mm, IPC Medium Density)
footprint MAXM-U16-2_L (SOP, 16-Leads, Body 5x4.4mm, Pitch 0.65mm, IPC High Density)
footprint MAXM-U16-2_M (SOP, 16-Leads, Body 5x4.4mm, Pitch 0.65mm, IPC Low Density)
pins: 1 TEST1 "Test Pin. Connect to VSS or leave unconnected.", 2 OUT (hiz) "Analog Output. Internal voltage nodes can be accessed in digital mode. OUT can be parallel connected to DIO. Bypass OUT to ground with a 0.1uF capacitor to reduce output noise.", 3 INP (in) "Positive Input. Can be swapped to INM by the Configuration register.", 4 BDR (out) "Bridge Drive Output", 5 INM (in) "Negative Input. Can be swapped to INP by the Configuration register.", 6 VSS (power) "Negative Supply Voltage", 7 VDD1 (power) "Positive Supply Voltage 1. Connect a 0.1uF capacitor from VDD to VSS.", 8 AMP+ (in) "Auxiliary Op Amp Positive Input", 9 AMPOUT (out) "Auxiliary Op Amp Output", 10 AMP- (in) "Auxiliary Op Amp Negative Input", 11 VDD2 (power) "Positive Supply Voltage 2. Connect a 0.47uF capacitor from VDD2 to VSS. Connect VDD2 to VDD1 or for improved noise performance, connect a 1k ohm resistor to VDD1.", 12 UNLOCK (in) "Secure-Lock Disable. There is a 150uA pulldown to VSS. Connect to VDD to disable Secure-Lock and enable serial communication.", 13 DIO (io) "Digital Input Output. Single-pin serial communication port. There are no internal pullups on DIO. Connect pullup resistor from DIO to VDD when in digital mode.", 14 TEST4 "Test Pin. Do not connect.", 15 TEST3 "Test Pin. Connect to VSS or leave unconnected.", 16 TEST2 "Test Pin. Connect to VSS or leave unconnected."

## MAX1455EAE
designator U?
Low Cost Automotive Sensor Signal Conditioner with 16-bit DAC, -40 to 85 degC, 16-Pin SOP (A16-2); Generic Part Number: MAX1455; PartNumber: MAX1455EAE; Calibration Method: Internal DACs updated from internal EEPROM; Industry Qualified: Automotive - AECQ100, Automotive - General; Output Type: Analog; DatasheetVersion: Rev. 1; PackageVersion: Rev. C, 02/2010; PackageReference: A16-2; PackageDescription: 16-Pin Shrink Small-Outline Package, Body 5.29 x 6.2 mm, Pitch 0.65 mm; Supplier 1: Digi-Key; Supplier Part Number 1: MAX1455EAE-ND; Supplier 2: Mouser; Supplier Part Number 2: 700-MAX1455EAE-; DACs/ADCs: 16-bit DAC; Features: Aux. Op Amp, No External Trim Req'd ,Temp. Sensor; Mounting Technology: Surface Mount; ComponentLink1Description: Manufacturer URL; ComponentLink1URL: http://www.maximintegrated.com/; ComponentLink2Description: Datasheet; ComponentLink2URL: http://datasheets.maximintegrated.com/en/ds/MAX1455.pdf; ComponentLink3Description: Package Specification; ComponentLink3URL: http://pdfserv.maximintegrated.com/package_dwgs/21-0056.PDF
footprint MAXM-A16-2_N (SOP, 16-Leads, Body 6.2x5.29mm, Pitch 0.65mm, IPC Medium Density)
footprint MAXM-A16-2_L (SOP, 16-Leads, Body 6.2x5.29mm, Pitch 0.65mm, IPC High Density)
footprint MAXM-A16-2_M (SOP, 16-Leads, Body 6.2x5.29mm, Pitch 0.65mm, IPC Low Density)
pins: 1 TEST1 "Test Pin. Connect to VSS or leave unconnected.", 2 OUT (hiz) "Analog Output. Internal voltage nodes can be accessed in digital mode. OUT can be parallel connected to DIO. Bypass OUT to ground with a 0.1uF capacitor to reduce output noise.", 3 INP (in) "Positive Input. Can be swapped to INM by the Configuration register.", 4 BDR (out) "Bridge Drive Output", 5 INM (in) "Negative Input. Can be swapped to INP by the Configuration register.", 6 VSS (power) "Negative Supply Voltage", 7 VDD1 (power) "Positive Supply Voltage 1. Connect a 0.1uF capacitor from VDD to VSS.", 8 AMP+ (in) "Auxiliary Op Amp Positive Input", 9 AMPOUT (out) "Auxiliary Op Amp Output", 10 AMP- (in) "Auxiliary Op Amp Negative Input", 11 VDD2 (power) "Positive Supply Voltage 2. Connect a 0.47uF capacitor from VDD2 to VSS. Connect VDD2 to VDD1 or for improved noise performance, connect a 1k ohm resistor to VDD1.", 12 UNLOCK (in) "Secure-Lock Disable. There is a 150uA pulldown to VSS. Connect to VDD to disable Secure-Lock and enable serial communication.", 13 DIO (io) "Digital Input Output. Single-pin serial communication port. There are no internal pullups on DIO. Connect pullup resistor from DIO to VDD when in digital mode.", 14 TEST4 "Test Pin. Do not connect.", 15 TEST3 "Test Pin. Connect to VSS or leave unconnected.", 16 TEST2 "Test Pin. Connect to VSS or leave unconnected."

## MAX1455EAE-T
designator U?
Low Cost Automotive Sensor Signal Conditioner with 16-bit DAC, -40 to 85 degC, 16-Pin SOP (A16-2), Tape and Reel; Generic Part Number: MAX1455; PartNumber: MAX1455EAE-T; Calibration Method: Internal DACs updated from internal EEPROM; Industry Qualified: Automotive - AECQ100, Automotive - General; Output Type: Analog; DatasheetVersion: Rev. 1; PackageVersion: Rev. C, 02/2010; PackageReference: A16-2; PackageDescription: 16-Pin Shrink Small-Outline Package, Body 5.29 x 6.2 mm, Pitch 0.65 mm; Supplier 1: Digi-Key; Supplier Part Number 1: MAX1455EAE-T-ND; Supplier 2: Mouser; Supplier Part Number 2: 700-MAX1455EAE-T-; DACs/ADCs: 16-bit DAC; Features: Aux. Op Amp, No External Trim Req'd ,Temp. Sensor; Packing: Tape and Reel; Mounting Technology: Surface Mount; ComponentLink1Description: Manufacturer URL; ComponentLink1URL: http://www.maximintegrated.com/; ComponentLink2Description: Datasheet; ComponentLink2URL: http://datasheets.maximintegrated.com/en/ds/MAX1455.pdf; ComponentLink3Description: Package Specification; ComponentLink3URL: http://pdfserv.maximintegrated.com/package_dwgs/21-0056.PDF
footprint MAXM-A16-2_N (SOP, 16-Leads, Body 6.2x5.29mm, Pitch 0.65mm, IPC Medium Density)
footprint MAXM-A16-2_L (SOP, 16-Leads, Body 6.2x5.29mm, Pitch 0.65mm, IPC High Density)
footprint MAXM-A16-2_M (SOP, 16-Leads, Body 6.2x5.29mm, Pitch 0.65mm, IPC Low Density)
pins: 1 TEST1 "Test Pin. Connect to VSS or leave unconnected.", 2 OUT (hiz) "Analog Output. Internal voltage nodes can be accessed in digital mode. OUT can be parallel connected to DIO. Bypass OUT to ground with a 0.1uF capacitor to reduce output noise.", 3 INP (in) "Positive Input. Can be swapped to INM by the Configuration register.", 4 BDR (out) "Bridge Drive Output", 5 INM (in) "Negative Input. Can be swapped to INP by the Configuration register.", 6 VSS (power) "Negative Supply Voltage", 7 VDD1 (power) "Positive Supply Voltage 1. Connect a 0.1uF capacitor from VDD to VSS.", 8 AMP+ (in) "Auxiliary Op Amp Positive Input", 9 AMPOUT (out) "Auxiliary Op Amp Output", 10 AMP- (in) "Auxiliary Op Amp Negative Input", 11 VDD2 (power) "Positive Supply Voltage 2. Connect a 0.47uF capacitor from VDD2 to VSS. Connect VDD2 to VDD1 or for improved noise performance, connect a 1k ohm resistor to VDD1.", 12 UNLOCK (in) "Secure-Lock Disable. There is a 150uA pulldown to VSS. Connect to VDD to disable Secure-Lock and enable serial communication.", 13 DIO (io) "Digital Input Output. Single-pin serial communication port. There are no internal pullups on DIO. Connect pullup resistor from DIO to VDD when in digital mode.", 14 TEST4 "Test Pin. Do not connect.", 15 TEST3 "Test Pin. Connect to VSS or leave unconnected.", 16 TEST2 "Test Pin. Connect to VSS or leave unconnected."

## MAX1455EUE
designator U?
Low Cost Automotive Sensor Signal Conditioner with 16-bit DAC, -40 to 85 degC, 16-Pin SOP (U16-2); Generic Part Number: MAX1455; PartNumber: MAX1455EUE; Calibration Method: Internal DACs updated from internal EEPROM; Industry Qualified: Automotive - AECQ100, Automotive - General; Output Type: Analog; DatasheetVersion: Rev. 1; PackageVersion: Rev. L, 07/2010; PackageReference: U16-2; PackageDescription: 16-Pin Thin Shrink Small-Outline Package, Body 4.4 x 5 mm, Pitch 0.65 mm; Supplier 1: Digi-Key; Supplier Part Number 1: MAX1455EUE-ND; Supplier 2: Mouser; Supplier Part Number 2: 700-MAX1455EUE-; DACs/ADCs: 16-bit DAC; Features: Aux. Op Amp, No External Trim Req'd ,Temp. Sensor; Mounting Technology: Surface Mount; Code_JEDEC: MO-153; ComponentLink1Description: Manufacturer URL; ComponentLink1URL: http://www.maximintegrated.com/; ComponentLink2Description: Datasheet; ComponentLink2URL: http://datasheets.maximintegrated.com/en/ds/MAX1455.pdf; ComponentLink3Description: Package Specification; ComponentLink3URL: http://pdfserv.maximintegrated.com/package_dwgs/21-0066.PDF
footprint MAXM-U16-2_N (SOP, 16-Leads, Body 5x4.4mm, Pitch 0.65mm, IPC Medium Density)
footprint MAXM-U16-2_L (SOP, 16-Leads, Body 5x4.4mm, Pitch 0.65mm, IPC High Density)
footprint MAXM-U16-2_M (SOP, 16-Leads, Body 5x4.4mm, Pitch 0.65mm, IPC Low Density)
pins: 1 TEST1 "Test Pin. Connect to VSS or leave unconnected.", 2 OUT (hiz) "Analog Output. Internal voltage nodes can be accessed in digital mode. OUT can be parallel connected to DIO. Bypass OUT to ground with a 0.1uF capacitor to reduce output noise.", 3 INP (in) "Positive Input. Can be swapped to INM by the Configuration register.", 4 BDR (out) "Bridge Drive Output", 5 INM (in) "Negative Input. Can be swapped to INP by the Configuration register.", 6 VSS (power) "Negative Supply Voltage", 7 VDD1 (power) "Positive Supply Voltage 1. Connect a 0.1uF capacitor from VDD to VSS.", 8 AMP+ (in) "Auxiliary Op Amp Positive Input", 9 AMPOUT (out) "Auxiliary Op Amp Output", 10 AMP- (in) "Auxiliary Op Amp Negative Input", 11 VDD2 (power) "Positive Supply Voltage 2. Connect a 0.47uF capacitor from VDD2 to VSS. Connect VDD2 to VDD1 or for improved noise performance, connect a 1k ohm resistor to VDD1.", 12 UNLOCK (in) "Secure-Lock Disable. There is a 150uA pulldown to VSS. Connect to VDD to disable Secure-Lock and enable serial communication.", 13 DIO (io) "Digital Input Output. Single-pin serial communication port. There are no internal pullups on DIO. Connect pullup resistor from DIO to VDD when in digital mode.", 14 TEST4 "Test Pin. Do not connect.", 15 TEST3 "Test Pin. Connect to VSS or leave unconnected.", 16 TEST2 "Test Pin. Connect to VSS or leave unconnected."

## MAX1455EUE-T
designator U?
Low Cost Automotive Sensor Signal Conditioner with 16-bit DAC, -40 to 85 degC, 16-Pin SOP (U16-2), Tape and Reel; Generic Part Number: MAX1455; PartNumber: MAX1455EUE-T; Calibration Method: Internal DACs updated from internal EEPROM; Industry Qualified: Automotive - AECQ100, Automotive - General; Output Type: Analog; DatasheetVersion: Rev. 1; PackageVersion: Rev. L, 07/2010; PackageReference: U16-2; PackageDescription: 16-Pin Thin Shrink Small-Outline Package, Body 4.4 x 5 mm, Pitch 0.65 mm; Supplier 1: Digi-Key; Supplier Part Number 1: MAX1455EUE-T-ND; Supplier 2: Mouser; Supplier Part Number 2: 700-MAX1455EUE-T-; DACs/ADCs: 16-bit DAC; Features: Aux. Op Amp, No External Trim Req'd ,Temp. Sensor; Packing: Tape and Reel; Mounting Technology: Surface Mount; Code_JEDEC: MO-153; ComponentLink1Description: Manufacturer URL; ComponentLink1URL: http://www.maximintegrated.com/; ComponentLink2Description: Datasheet; ComponentLink2URL: http://datasheets.maximintegrated.com/en/ds/MAX1455.pdf; ComponentLink3Description: Package Specification; ComponentLink3URL: http://pdfserv.maximintegrated.com/package_dwgs/21-0066.PDF
footprint MAXM-U16-2_N (SOP, 16-Leads, Body 5x4.4mm, Pitch 0.65mm, IPC Medium Density)
footprint MAXM-U16-2_L (SOP, 16-Leads, Body 5x4.4mm, Pitch 0.65mm, IPC High Density)
footprint MAXM-U16-2_M (SOP, 16-Leads, Body 5x4.4mm, Pitch 0.65mm, IPC Low Density)
pins: 1 TEST1 "Test Pin. Connect to VSS or leave unconnected.", 2 OUT (hiz) "Analog Output. Internal voltage nodes can be accessed in digital mode. OUT can be parallel connected to DIO. Bypass OUT to ground with a 0.1uF capacitor to reduce output noise.", 3 INP (in) "Positive Input. Can be swapped to INM by the Configuration register.", 4 BDR (out) "Bridge Drive Output", 5 INM (in) "Negative Input. Can be swapped to INP by the Configuration register.", 6 VSS (power) "Negative Supply Voltage", 7 VDD1 (power) "Positive Supply Voltage 1. Connect a 0.1uF capacitor from VDD to VSS.", 8 AMP+ (in) "Auxiliary Op Amp Positive Input", 9 AMPOUT (out) "Auxiliary Op Amp Output", 10 AMP- (in) "Auxiliary Op Amp Negative Input", 11 VDD2 (power) "Positive Supply Voltage 2. Connect a 0.47uF capacitor from VDD2 to VSS. Connect VDD2 to VDD1 or for improved noise performance, connect a 1k ohm resistor to VDD1.", 12 UNLOCK (in) "Secure-Lock Disable. There is a 150uA pulldown to VSS. Connect to VDD to disable Secure-Lock and enable serial communication.", 13 DIO (io) "Digital Input Output. Single-pin serial communication port. There are no internal pullups on DIO. Connect pullup resistor from DIO to VDD when in digital mode.", 14 TEST4 "Test Pin. Do not connect.", 15 TEST3 "Test Pin. Connect to VSS or leave unconnected.", 16 TEST2 "Test Pin. Connect to VSS or leave unconnected."